# EAGLE library part QPA9501TR13 (library My_Library)
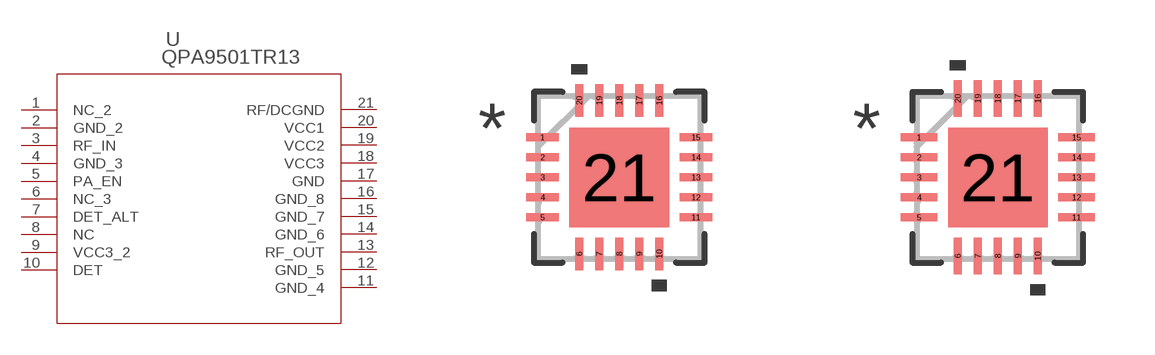
[diagram p24: symbol with the pads of QFN20_9501_4X4-0P5_QOR; footprints QFN20_9501_4X4-0P5_QOR, QFN20_9501_4X4-0P5_QOR-M]

Designator prefix U

## QPA9501TR13 (COPYRIGHT: Copyright (C) 2024 Ultra Librarian. All rights reserved.; MANUFACTURER_PART_NUMBER: QPA9501TR13; MFR_NAME: Qorvo; TYPE: RF Amplifier)  [QFN20_9501_4X4-0P5_QOR]
1  NC_2  nc
2  GND_2  pas
3  RF_IN  in
4  GND_3  pas
5  PA_EN  pas
6  NC_3  nc
7  DET_ALT  out
8  NC  nc
9  VCC3_2  pwr
10  DET  out
11  GND_4  pas
12  GND_5  pas
13  RF_OUT  out
14  GND_6  pas
15  GND_7  pas
16  GND_8  pas
17  GND  pas
18  VCC3  pwr
19  VCC2  pwr
20  VCC1  pwr
21  RF/DCGND  pas

## QPA9501TR13QFN20_9501_4X4-0P5_QOR-M (COPYRIGHT: Copyright (C) 2024 Ultra Librarian. All rights reserved.; MANUFACTURER_PART_NUMBER: QPA9501TR13; MFR_NAME: Qorvo; TYPE: RF Amplifier)  [QFN20_9501_4X4-0P5_QOR-M]
Pads as for QFN20_9501_4X4-0P5_QOR

## QPA9501TR13QFN20_9501_4X4-0P5_QOR-L (COPYRIGHT: Copyright (C) 2024 Ultra Librarian. All rights reserved.; MANUFACTURER_PART_NUMBER: QPA9501TR13; MFR_NAME: Qorvo; TYPE: RF Amplifier)  [QFN20_9501_4X4-0P5_QOR-L]
Pads as for QFN20_9501_4X4-0P5_QOR

## Footprint QFN20_9501_4X4-0P5_QOR (pad centres in mm)
smd 0.813 x 0.203: 1 -1.918,1; 2 -1.918,0.5; 3 -1.918,0; 4 -1.918,-0.5; 5 -1.918,-1; 11 1.918,-1; 12 1.918,-0.5; 13 1.918,0; 14 1.918,0.5; 15 1.918,1
smd 0.203 x 0.813: 6 -1,-1.918; 7 -0.5,-1.918; 8 0,-1.918; 9 0.5,-1.918; 10 1,-1.918; 16 1,1.918; 17 0.5,1.918; 18 0,1.918; 19 -0.5,1.918; 20 -1,1.918
smd 2.489 x 2.489: 21 0,0

## Footprint QFN20_9501_4X4-0P5_QOR-M (pad centres in mm)
smd 0.914 x 0.203: 1 -1.968,1; 2 -1.968,0.5; 3 -1.968,0; 4 -1.968,-0.5; 5 -1.968,-1; 11 1.968,-1; 12 1.968,-0.5; 13 1.968,0; 14 1.968,0.5; 15 1.968,1
smd 0.203 x 0.914: 6 -1,-1.968; 7 -0.5,-1.968; 8 0,-1.968; 9 0.5,-1.968; 10 1,-1.968; 16 1,1.968; 17 0.5,1.968; 18 0,1.968; 19 -0.5,1.968; 20 -1,1.968
smd 2.489 x 2.489: 21 0,0

## Footprint QFN20_9501_4X4-0P5_QOR-L (pad centres in mm)
smd 0.711 x 0.203: 1 -1.867,1; 2 -1.867,0.5; 3 -1.867,0; 4 -1.867,-0.5; 5 -1.867,-1; 11 1.867,-1; 12 1.867,-0.5; 13 1.867,0; 14 1.867,0.5; 15 1.867,1
smd 0.203 x 0.711: 6 -1,-1.867; 7 -0.5,-1.867; 8 0,-1.867; 9 0.5,-1.867; 10 1,-1.867; 16 1,1.867; 17 0.5,1.867; 18 0,1.867; 19 -0.5,1.867; 20 -1,1.867
smd 2.489 x 2.489: 21 0,0